# Altium schematic symbol library Diode_Osram_Opto_LO_Q976-PS-25-0-20-R18_eec.SchLib: 1 symbol
Pins are listed as number, name and electrical type; pins without a type are passive.

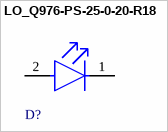
[diagram p0: symbol LO_Q976-PS-25-0-20-R18]

## LO_Q976-PS-25-0-20-R18
designator D?  (value not drawn)
pins: 1 C, 2 A